# Altium schematic symbol library 1726480103.SchLib: 2 symbols
Pins are listed as number, name and electrical type; pins without a type are passive.

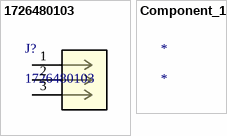
[diagram p0: symbols 1726480103 to Component_1]

## 1726480103
designator J?
No Description Available; Mfr_Name: Molex Connector Corporation; Copyright: Copyright (C) 2021 Ultra Librarian. All rights reserved.; Manufacturer_Part_Number: 1726480103; Digi-Key_Part_Number_1: WM24158-ND; RefDes: RefDes; Type: DEV
footprint CON_1726480103
pins: 1, 2, 3

## Component_1
designator *